# EAGLE library part MC1458 (library robione)
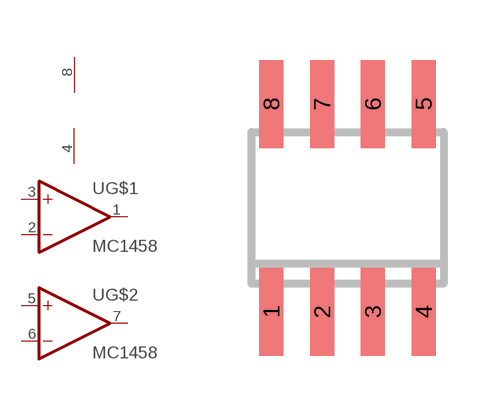
[diagram p2: symbol with the pads of SO08; footprint SO08]

Designator prefix -; gates G$1=OPEMP-TRIANGLE G$2=OPEMP-TRIANGLE G$3=OPAMP-SUP

## MC1458  [SO08]
1  G$1:OUT  out
2  G$1:-IN  in
3  G$1:+IN  in
4  G$3:V-  pas
5  G$2:+IN  in
6  G$2:-IN  in
7  G$2:OUT  out
8  G$3:V+  pas

## Footprint SO08 (pad centres in mm)
Small Outline Package 8 NS Package M08A
smd 0.6 x 2.2: 1 -1.905,-2.6; 2 -0.635,-2.6; 3 0.635,-2.6; 4 1.905,-2.6; 5 1.905,2.6; 6 0.635,2.6; 7 -0.635,2.6; 8 -1.905,2.6